# EAGLE library part IRF8910 (library transistors)
International Rectifier IRF8910, 9910 Dual MOSFET in SO-8, standard pinout
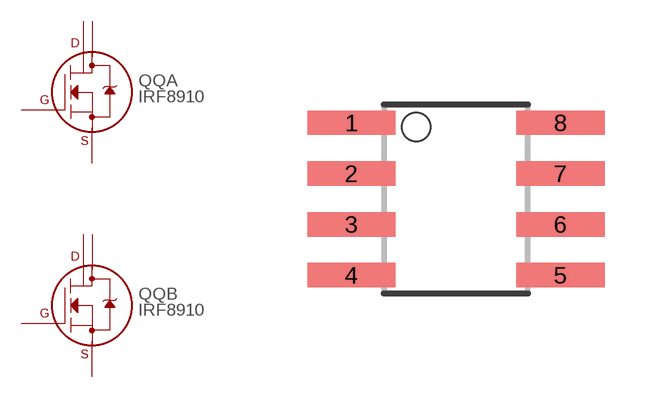
[diagram p2: symbol with the pads of SO-8; footprint SO-8]

Designator prefix QQ; gates A=MOSFET-N-ENH-BDIODE-DD B=MOSFET-N-ENH-BDIODE-DD

## IRF8910  [SO-8]
1  A:S
2  A:G  hiz
3  B:S
4  B:G  hiz
5  B:D2
6  B:D1
7  A:D2
8  A:D1

## Footprint SO-8 (pad centres in mm)
SO-8
smd 2.21 x 0.61: 1 -2.616,1.905; 2 -2.616,0.635; 3 -2.616,-0.635; 4 -2.616,-1.905; 5 2.616,-1.905; 6 2.616,-0.635; 7 2.616,0.635; 8 2.616,1.905